# EAGLE library part DIPRES8 (library custom-2002)
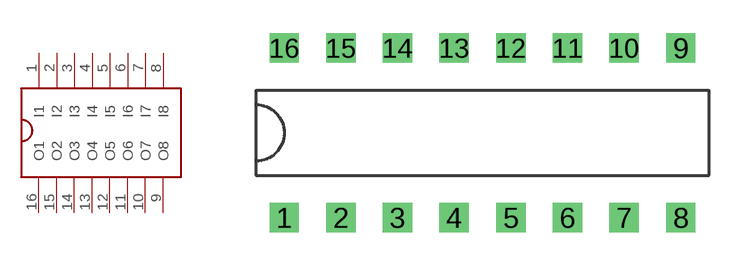
[diagram p14: symbol with the pads of DIP16; footprint DIP16]

Designator prefix -

## DIPRES8  [DIP16]
1  I1
2  I2
3  I3
4  I4
5  I5
6  I6
7  I7
8  I8
9  O8
10  O7
11  O6
12  O5
13  O4
14  O3
15  O2
16  O1

## Footprint DIP16 (pad centres in mm)
dip14
drill 0.813 square: 1 -10.16,-2.54; 2 -7.62,-2.54; 3 -5.08,-2.54; 4 -2.54,-2.54; 5 0,-2.54; 6 2.54,-2.54; 7 5.08,-2.54; 8 7.62,-2.54; 9 7.62,5.08; 10 5.08,5.08; 11 2.54,5.08; 12 0,5.08; 13 -2.54,5.08; 14 -5.08,5.08; 15 -7.62,5.08; 16 -10.16,5.08